# Altium footprint library Sensing Element.PcbLib: 32 footprints (part 1 of 2)
Each footprint in its own frame and in the unit in brackets; x right, y up, seen from the top. Pads: shape width x height; smd on the part's side, far side on the other; paste and mask are expansions set on the pad; w line width, h text height; cw(c..) or ccw(c..) is an arc to the next point about the centre after c.
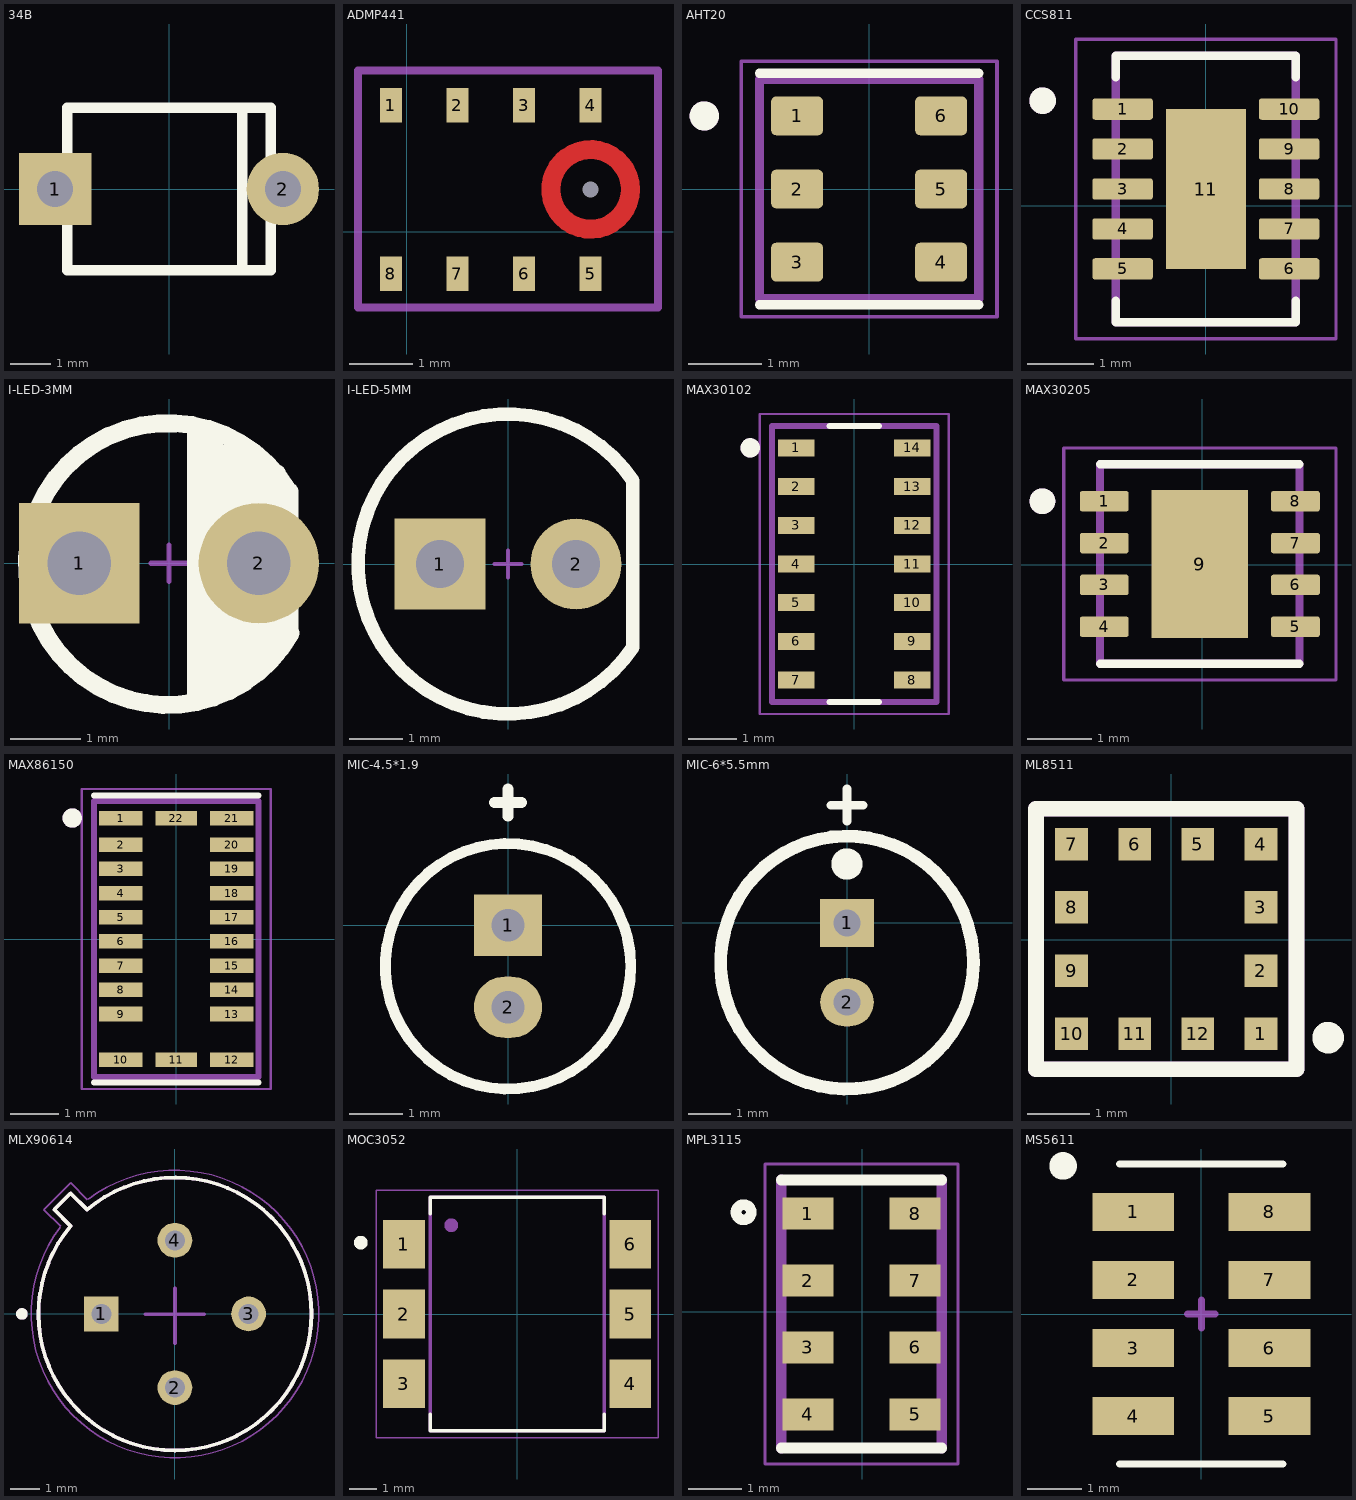
[diagram p0: the footprints below, top view; thin cyan lines are the x and y axes]

## 34B [mil]
pads (2):
  rect 70x70 hole 35: 1(-110.24,0)
  round 70 hole 35: 2(110.24,0)
Top Overlay:
  lines w10: 70.87,-78.74 70.87,78.74 ; -98.43,-78.74 98.43,-78.74 98.43,78.74 -98.43,78.74 -98.43,-78.74
3D body "BPW34B.STEP": height 112.2, standoff -99.03, extent -120.53,-78.74 120.53,78.74
3D body: height 111.42, standoff 95.47, extent -78.74,-66.93 78.74,66.93

## ADMP441 [mil]
pads (9):
  rect 13.78x21.65 smd: 1(-10,79) 2(31.5,79) 3(73,79) 4(114.5,79) 5(114.5,-26) 6(73,-26) 7(31.5,-26) 8(-10,-26)
  round 0 hole 9.84: 9(114.5,26.5)
Top Layer:
  circle w11.81: c114.5,26.5 r24.8
Top Solder:
  circle w11.81: c114.5,26.5 r24.8
Mechanical 1:
  lines w4.92: -30.5,-47 156.5,-47 156.5,100.5 -30.5,100.5 -30.5,-47

## AHT20 [mm]
pads (6):
  rrect25% 0.71x0.53 smd: 1(-0.985,1) 2(-0.985,0) 3(-0.985,-1) 4(0.985,-1) 5(0.985,0) 6(0.985,1)
Top Overlay:
  circle w0.2: c-2.255,1 r0.1
  lines w0.127: -1.5,-1.585 1.5,-1.585 ; -1.5,1.585 1.5,1.585
Mechanical 13:
  circle w0.2: c-2.255,1 r0.1
  lines w0.127: -1.5,-1.5 1.5,-1.5 1.5,1.5 -1.5,1.5 -1.5,-1.5
Mechanical 15:
  lines w0.05: -1.75,-1.75 -1.75,1.75 1.75,1.75 1.75,-1.75 -1.75,-1.75
3D body "AHT20 Sensor.step": height 1, standoff 0, extent -1.5,-1.5 1.5,1.5

## CCS811 [mm]
pads (11):
  rrect25% 0.91x0.32 smd: 1(-1.25,1.454) 2(-1.25,0.854) 3(-1.25,0.254) 4(-1.25,-0.346) 5(-1.25,-0.946) 6(1.25,-0.946) 7(1.25,-0.346) 8(1.25,0.254) 9(1.25,0.854) 10(1.25,1.454)
  rect 1.2x2.4 smd paste-2: 11(0,0.254)
Top Overlay:
  circle w0.2: c-2.451,1.581 r0.1
  lines w0.127: -1.35,-1.426 -1.35,-1.746 1.35,-1.746 1.35,-1.426 ; -1.35,1.934 -1.35,2.254 1.35,2.254 1.35,1.934
Top Paste:
  region: 0.38,-0.506 -0.38,-0.506 -0.38,1.014 0.38,1.014
Mechanical 13:
  circle w0.2: c-2.451,1.581 r0.1
  lines w0.127: -1.35,-1.746 -1.35,2.254 1.35,2.254 1.35,-1.746 -1.35,-1.746
Mechanical 15:
  lines w0.05: -1.955,-1.996 -1.955,2.504 1.955,2.504 1.955,-1.996 -1.955,-1.996
3D body "CCS811B-JOPR--3DModel-STEP-56544.STEP": height 1.1, standoff 0, extent -1.35,-1.746 1.35,2.254

## I-LED-3MM [mm] "3mmï¿½ï¿½ï¿½â·¢ï¿½ï¿½ï¿½"
height 6.35
pads (2):
  rect 1.7x1.7 hole 0.9: 1(-1.27,0)
  round 1.7 hole 0.9: 2(1.27,0)
Top Overlay:
  lines w0.254: 0.381,-1.905 0.381,1.905 ; 0.635,-1.778 0.635,1.778 ; 1.016,-1.651 1.016,1.524 ; 1.524,1.27 1.524,-1.27 1.27,-1.524 1.27,1.397 1.143,1.524 1.016,1.524 ; 1.685,1.025 ccw(c-0.016,-0.012) 1.72,-0.987 ; 1.702,-0.965 1.702,1.016 ; 0.889,1.651 0.889,-1.778 0.889,1.651 ; 0.889,1.651 1.016,1.524
Mechanical 15:
  lines w0.076: -0.254,0 0.254,0 ; 0,-0.254 0,0.254
3D body "LED 3mm-������.STEP": height 5.55, standoff 0.05, extent -1.95,-1.95 1.638,1.95
3D body "LED 3mm-W.STEP": height 2.56, standoff -3.45, extent -1.623,-0.838 1.618,0.838

## I-LED-5MM [mm] "5mmï¿½ï¿½ï¿½â·¢ï¿½ï¿½ï¿½"
height 10.16
pads (2):
  rect 1.7x1.7 hole 0.9: 1(-1.27,0)
  round 1.7 hole 0.9: 2(1.27,0)
Top Overlay:
  lines w0.254: 2.33,-1.553 cw(c0,0) 2.33,1.553 2.33,-1.553
Mechanical 15:
  lines w0.076: -0.254,0 0.254,0 ; 0,-0.254 0,0.254
3D body "LED 5mm-W.STEP": height 4.5, standoff -3.45, extent -1.983,-0.795 2.076,0.805
3D body "LED 5mm������.STEP": height 8.75, standoff 0.05, extent -2.85,-2.85 2.454,2.85

## MAX30102 [mm]
pads (14):
  rect 0.75x0.35 smd: 1(-1.2,2.4) 2(-1.2,1.6) 3(-1.2,0.8) 4(-1.2,0) 5(-1.2,-0.8) 6(-1.2,-1.6) 7(-1.2,-2.4) 8(1.2,-2.4) 9(1.2,-1.6) 10(1.2,-0.8) 11(1.2,0) 12(1.2,0.8) 13(1.2,1.6) 14(1.2,2.4)
Top Overlay:
  circle w0.2: c-2.15,2.4 r0.1
  lines w0.127: -0.505,-2.85 0.505,-2.85 ; -0.505,2.85 0.505,2.85
Mechanical 1:
  lines w0.127: -1.7,-2.85 -1.7,2.85 1.7,2.85 1.7,-2.85 -1.7,-2.85
Mechanical 13:
  circle w0.2: c-2.15,2.4 r0.1
Mechanical 15:
  lines w0.05: -1.95,-3.1 1.95,-3.1 1.95,3.1 -1.95,3.1 -1.95,-3.1
3D body "step_temp.STEP": height 1.65, standoff 0, extent -1.65,-2.8 1.65,2.8

## MAX30205 [mm] "Body Temp"
pads (9):
  rrect25% 0.76x0.32 smd: 1(-1.519,0.986) 2(-1.519,0.336) 3(-1.519,-0.314) 4(-1.519,-0.964) 5(1.451,-0.964) 6(1.451,-0.314) 7(1.451,0.336) 8(1.451,0.986)
  rect 1.5x2.3 smd paste-2: 9(-0.034,0.011)
Top Overlay:
  circle w0.2: c-2.479,0.986 r0.1
  lines w0.127: -1.584,-1.539 1.516,-1.539 ; -1.584,1.561 1.516,1.561
Top Paste:
  region: 0.436,-0.719 -0.504,-0.719 -0.504,0.741 0.436,0.741
Mechanical 13:
  circle w0.2: c-2.479,0.986 r0.1
  lines w0.127: -1.584,-1.539 1.516,-1.539 1.516,1.561 -1.584,1.561 -1.584,-1.539
Mechanical 15:
  lines w0.05: -2.149,-1.789 2.081,-1.789 2.081,1.811 -2.149,1.811 -2.149,-1.789
3D body "MAX30205MTA+.STEP": height 0.8, standoff 0, extent -1.534,-1.489 1.466,1.511

## MAX86150 [mm]
pads (22):
  rect 0.9x0.3 smd: 1(-1.15,2.5) 2(-1.15,1.95) 3(-1.15,1.45) 4(-1.15,0.95) 5(-1.15,0.45) 6(-1.15,-0.05) 7(-1.15,-0.55) 8(-1.15,-1.05) 9(-1.15,-1.55) 10(-1.15,-2.5) 12(1.15,-2.5) 13(1.15,-1.55) 14(1.15,-1.05) 15(1.15,-0.55) 16(1.15,-0.05) 17(1.15,0.45) 18(1.15,0.95) 19(1.15,1.45) 20(1.15,1.95) 21(1.15,2.5)
  rect 0.85x0.3 smd: 11(0,-2.5) 22(0,2.5)
Top Overlay:
  circle w0.2: c-2.15,2.5 r0.1
  lines w0.127: -1.7,-2.964 1.7,-2.964 ; -1.7,2.964 1.7,2.964
Mechanical 13:
  circle w0.2: c-2.15,2.5 r0.1
  lines w0.127: -1.7,-2.85 -1.7,2.85 1.7,2.85 1.7,-2.85 -1.7,-2.85
Mechanical 15:
  lines w0.05: -1.95,-3.1 -1.95,3.1 1.95,3.1 1.95,-3.1 -1.95,-3.1
3D body "MAX86150EFF---3DModel-STEP-56544(1).STEP": height 1.4, standoff 0, extent -1.65,-2.85 1.65,2.75

## MIC-4.5*1.9 [mil] "ï¿½ï¿½ï¿½ï¿½Í·"
pads (2):
  rect 50x45 hole 24: 1(0,0)
  oval 50x45 hole 24: 2(0,-60)
Top Overlay:
  circle w8: c0,-30 r90
  lines w8: -10,90 10,90 ; 0,80 0,100
3D body "MIC4.5X1.9.stp": height 75.38, standoff -110.24, extent -88.81,-118.58 88,58.58

## MIC-6*5.5mm [mil] "ï¿½ï¿½ï¿½ï¿½Í·"
pads (2):
  rect 50x45 hole 25: 1(0,0)
  oval 50x45 hole 25: 2(0,-74)
Top Overlay:
  circle w12: c0,-37 r118
  circle w15: c0,55 r7.07
  lines w8: -15,110 15,110 ; 0,95 0,125
3D body "MIC6X5.5mm.stp": height 197.64, standoff -118.11, extent -117.78,-155 117.78,81.22

## ML8511 [mm]
pads (12):
  rect 0.525x0.525 smd: 1(1.448,-1.511) 2(1.448,-0.495) 3(1.448,0.521) 4(1.448,1.537) 5(0.432,1.537) 6(-0.584,1.537) 7(-1.6,1.537) 8(-1.6,0.521) 9(-1.6,-0.495) 10(-1.6,-1.511) 11(-0.584,-1.511) 12(0.432,-1.511)
Top Overlay:
  circle w0.254: c2.527,-1.575 r0.127
  lines w0.254: -2.172,-2.083 -2.172,2.108 2.019,2.108 2.019,-2.083 -2.172,-2.083
Mechanical 1:
  lines w0.254: -2.172,-2.083 -2.172,2.108 2.019,2.108 2.019,-2.083 -2.172,-2.083

## MLX90614 [mm]
pads (4):
  rect 1.198x1.198 hole 0.69: 1(-2.54,0)
  round 1.198 hole 0.69: 2(0,-2.54) 3(2.54,0) 4(0,2.54)
Top Overlay:
  circle w0.2: c-5.28,0 r0.1
  lines w0.127: -3.605,3.027 ccw(c0.005,-0.002) -3.327,-3.334 ; -3.599,3.033 -4.165,3.599 -3.599,4.165 -3.033,3.599 ; -3.33,-3.33 ccw(c0,0) 3.33,-3.33 ccw(c0,0) 3.33,3.33 ; -3.026,3.605 cw(c0.002,-0.004) 3.334,3.327
Mechanical 13:
  circle w0.2: c-5.28,0 r0.1
  lines w0.127: -3.605,3.027 ccw(c0.005,-0.002) -3.327,-3.334 ; -3.599,3.033 -4.165,3.599 -3.599,4.165 -3.033,3.599 ; -3.33,-3.33 ccw(c0,0) 3.33,-3.33 ccw(c0,0) 3.33,3.33 ; -3.026,3.605 cw(c0.002,-0.004) 3.334,3.327
Mechanical 15:
  lines w0.05: -3.959,2.989 ccw(c0.005,0.001) -3.505,-3.509 ; -3.937,3.018 -4.518,3.599 -3.599,4.518 -3.018,3.937 ; -3.507,-3.507 ccw(c0,0) 3.507,-3.507 ccw(c0,0) 3.507,3.507 ; -2.989,3.959 cw(c-0.001,-0.005) 3.509,3.505
  lines w0.127: -1.016,-0.005 1.016,-0.005 ; -0.001,-1.016 -0.001,0.889
3D body "MLX90614ESF-AAA-000-TU.STEP": height 4.25, standoff -13, extent -4.56,-4.56 4.56,4.56

## MOC3052 [mm]
pads (6):
  rect 1.52x1.78 smd: 1(-4.125,2.54) 2(-4.125,0) 3(-4.125,-2.54) 4(4.125,-2.54) 5(4.125,0) 6(4.125,2.54)
Top Overlay:
  circle w0.3: c-5.7,2.6 r0.1
  lines w0.127: -3.175,-4.25 -3.175,-3.65 ; -3.175,3.65 -3.175,4.255 3.175,4.255 3.175,3.65 ; -3.15,-4.255 3.15,-4.255 ; 3.175,-4.25 3.175,-3.65
Mechanical 13:
  circle w0.3: c-2.398,3.235 r0.1
  lines w0.127: -3.175,-4.255 -3.175,4.255 3.175,4.255 3.175,-4.255 -3.175,-4.255
Mechanical 15:
  lines w0.05: -5.135,-4.505 -5.135,4.505 5.135,4.505 5.135,-4.505 -5.135,-4.505
3D body "MOC3052SM.STEP": height 5.06, standoff -0.02, extent -4.582,-4.255 4.583,4.255

## MPL3115 [mm]
pads (8):
  rect 0.95x0.6 smd: 1(-1.013,1.837) 2(-1.013,0.587) 3(-1.013,-0.663) 4(-1.013,-1.913) 5(0.987,-1.913) 6(0.987,-0.663) 7(0.987,0.587) 8(0.987,1.837)
Top Overlay:
  circle w0.2: c-2.213,1.862 r0.141
  lines w0.2: -1.513,-2.538 1.487,-2.538 ; -1.513,2.462 1.487,2.462
Mechanical 13:
  lines w0.2: -1.513,-2.538 -1.513,2.462 ; 1.487,-2.538 1.487,2.462
Mechanical 15:
  lines w0.05: -1.813,-2.838 1.787,-2.838 1.787,2.762 -1.813,2.762 -1.813,-2.838
3D body "MPL3115A2--3DModel-STEP-269445.STEP": height 1.2, standoff 0, extent -1.513,-2.525 1.487,2.475

## MS5611 [mm] "ï¿½ï¿½Ñ¹ï¿½ï¿½ï¿½ï¿½Ð¾Æ¬"
pads (8):
  rect 1.5x0.7 smd: 1(-1.25,1.875) 2(-1.25,0.625) 3(-1.25,-0.625) 4(-1.25,-1.875) 5(1.25,-1.875) 6(1.25,-0.625) 7(1.25,0.625) 8(1.25,1.875)
Top Overlay:
  circle w0.454: c-2.54,2.718 r0.025
  lines w0.127: -1.5,-2.754 1.5,-2.754 ; -1.5,2.754 1.5,2.754
Mechanical 15:
  lines w0.127: -0.254,0 0.254,0 ; 0,-0.254 0,0.254
3D body "SM5611.STEP": height 1, standoff -0.01, extent -1.5,-2.5 1.501,2.5